# Altium footprint library ETech PCB Rev 1.0.PcbLib: 102 footprints (part 3 of 7)
Each footprint in its own frame and in the unit in brackets; x right, y up, seen from the top. Pads: shape width x height; smd on the part's side, far side on the other; paste and mask are expansions set on the pad; w line width, h text height; cw(c..) or ccw(c..) is an arc to the next point about the centre after c.
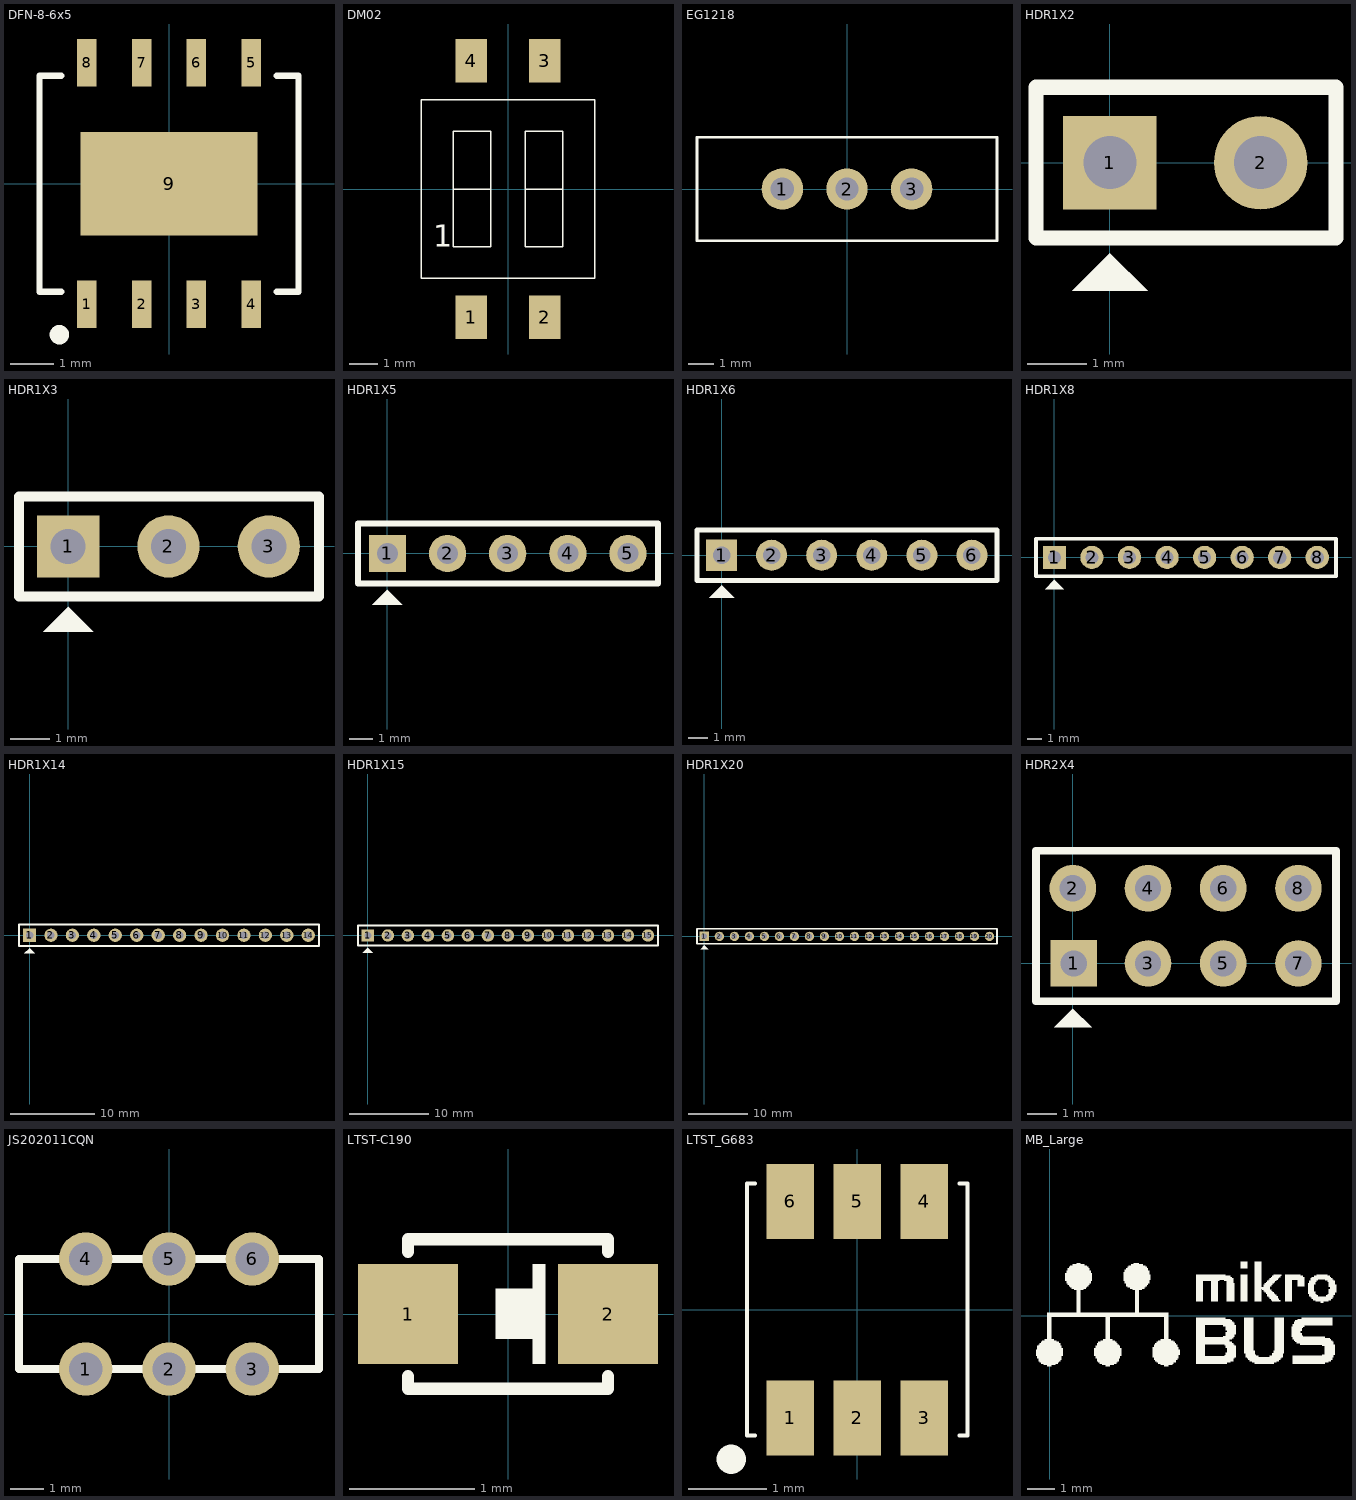
[diagram p2: the footprints below, top view; thin cyan lines are the x and y axes]

## DFN-8-6x5 [mm]
height 2.4
pads (9):
  rect 0.45x1.1 smd mask+0.065: 1(-1.905,-2.8) 2(-0.635,-2.8) 3(0.635,-2.8) 4(1.905,-2.8) 5(1.905,2.8) 6(0.635,2.8) 7(-0.635,2.8) 8(-1.905,2.8)
  rect 4.1x2.4 smd mask+0.065: 9(0,0)
Top Overlay:
  circle w0.25: c-2.54,-3.5 r0.1
  lines w0.15: -2.5,-2.5 -3,-2.5 -3,2.5 -2.5,2.5 ; 2.5,-2.5 3,-2.5 3,2.5 2.5,2.5

## DM02 [mm]
height 1.1
pads (4):
  rect 1.1x1.5 smd: 1(-1.27,-4.45) 2(1.27,-4.45) 3(1.27,4.45) 4(-1.27,4.45)
Top Overlay:
  lines w0.045: -1.9,0 -0.6,0 ; 0.6,0 1.9,0 ; -3,-3.1 -3,3.1 3,3.1 3,-3.1 -3,-3.1 ; -1.9,-2 -1.9,2 -0.6,2 -0.6,-2 -1.9,-2 ; 0.6,-2 0.6,2 1.9,2 1.9,-2 0.6,-2
  text "1" at -2.6,-2 h0.76

## EG1218 [mm]
height 0.45
pads (3):
  round 1.6 hole 0.9 unplated: 1(-2.5,0) 2(0,0) 3(2.5,0)
Top Overlay:
  lines w0.1: -5.8,-2 -5.8,2 5.8,2 5.8,-2 -5.8,-2

## HDR1X2 [mil]
height 751.97
pads (2):
  rect 62x62 hole 35: 1(0,0)
  round 62 hole 35: 2(100,0)
Top Overlay:
  region: 0,-60 -25,-85 25,-85
  lines w10: -49,-50 150,-50 150,50 -49,50 -49,-50

## HDR1X3 [mil]
height 751.97
pads (3):
  rect 62x62 hole 35: 1(0,0)
  round 62 hole 35: 2(100,0) 3(200,0)
Top Overlay:
  region: 0,-60 -25,-85 25,-85
  lines w10: -49,-50 -49,50 250,50 250,-50 -49,-50

## HDR1X5 [mil]
height 751.97
pads (5):
  rect 62x62 hole 35: 1(0,0)
  round 62 hole 35: 2(100,0) 3(200,0) 4(300,0) 5(400,0)
Top Overlay:
  region: 0,-60 -25,-85 25,-85
  lines w10: -49,-50 -49,50 450,50 450,-50 -49,-50

## HDR1X6 [mil]
height 751.97
pads (6):
  rect 62x62 hole 35: 1(0,0)
  round 62 hole 35: 2(100,0) 3(200,0) 4(300,0) 5(400,0) 6(500,0)
Top Overlay:
  region: 0,-60 -25,-85 25,-85
  lines w10: -49,-50 550,-50 550,50 -49,50 -49,-50

## HDR1X8 [mil]
height 751.97
pads (8):
  rect 62x62 hole 35: 1(0,0)
  round 62 hole 35: 2(100,0) 3(200,0) 4(300,0) 5(400,0) 6(500,0) 7(600,0) 8(700,0)
Top Overlay:
  region: 0,-60 -25,-85 25,-85
  lines w10: -49,-50 750,-50 750,50 -49,50 -49,-50

## HDR1X14 [mil]
height 751.97
pads (14):
  rect 62x62 hole 35: 1(0,0)
  round 62 hole 35: 2(100,0) 3(200,0) 4(300,0) 5(400,0) 6(500,0) 7(600,0) 8(700,0)
  round 62 hole 35 unplated: 9(800,0) 10(900,0) 11(1000,0) 12(1100,0) 13(1200,0) 14(1300,0)
Top Overlay:
  region: 0,-60 -25,-85 25,-85
  lines w10: -49,-50 1350,-50 1350,50 -49,50 -49,-50

## HDR1X15 [mil]
height 751.97
pads (15):
  rect 62x62 hole 35: 1(0,0)
  round 62 hole 35: 2(100,0) 3(200,0) 4(300,0) 5(400,0) 6(500,0) 7(600,0) 8(700,0)
  round 62 hole 35 unplated: 9(800,0) 10(900,0) 11(1000,0) 12(1100,0) 13(1200,0) 14(1300,0) 15(1400,0)
Top Overlay:
  region: 0,-60 -25,-85 25,-85
  lines w10: -49,-50 1450,-50 1450,50 -49,50 -49,-50

## HDR1X20 [mil]
height 751.97
pads (20):
  rect 62x62 hole 35: 1(0,0)
  round 62 hole 35: 2(100,0) 3(200,0) 4(300,0) 5(400,0) 6(500,0) 7(600,0) 8(700,0)
  round 62 hole 35 unplated: 9(800,0) 10(900,0) 11(1000,0) 12(1100,0) 13(1200,0) 14(1300,0) 15(1400,0) 16(1500,0) 17(1600,0) 18(1700,0) 19(1800,0) 20(1900,0)
Top Overlay:
  region: 0,-60 -25,-85 25,-85
  lines w10: -49,-50 1950,-50 1950,50 -49,50 -49,-50

## HDR2X4 [mil]
height 751.97
pads (8):
  rect 62x62 hole 35: 1(1,0)
  round 62 hole 35: 2(0,100) 3(100,0) 4(100,100) 5(200,0) 6(200,100) 7(300,0) 8(300,100)
Top Overlay:
  region: 0,-60 -25,-85 25,-85
  lines w10: -49,-50 -49,150 350,150 350,-50 -49,-50

## JS202011CQN [mm]
height 19.1
pads (6):
  round 1.6 hole 1: 1(-2.5,-1.65) 2(0,-1.65) 3(2.5,-1.65) 4(-2.5,1.65) 5(0,1.65) 6(2.5,1.65)
Top Overlay:
  lines w0.254: -4.5,-1.65 -4.5,1.65 4.5,1.65 4.5,-1.65 -4.5,-1.65

## LTST-C190 [mm]
height 0.8
pads (2):
  rect 0.8x0.8 smd: 1(-0.8,0) 2(0.8,0)
Top Overlay:
  region: -0.1,0.2 -0.1,-0.2 0.2,-0.2 0.2,-0.4 0.3,-0.4 0.3,0.4 0.2,0.4 0.2,0.2
  lines w0.1: -0.8,-0.5 -0.8,-0.6 0.8,-0.6 0.8,-0.5 ; -0.8,0.5 -0.8,0.6 0.8,0.6 0.8,0.5

## LTST_G683 [mm]
height 2.4
pads (6):
  rect 0.6x0.95 smd mask+0.08: 1(-0.85,-1.375) 2(0,-1.375) 3(0.85,-1.375) 4(0.85,1.375) 5(0,1.375) 6(-0.85,1.375)
Top Overlay:
  circle w0.25: c-1.6,-1.9 r0.06
  lines w0.05: -1.3,-1.6 -1.4,-1.6 -1.4,1.6 -1.3,1.6 ; 1.3,-1.6 1.4,-1.6 1.4,1.6 1.3,1.6

## MB_Large [mm]
height 2.4
Top Overlay:
  drawing of 10 lines, arcs and shapes, not listed